# Altium footprint library DC-DC_Buck_Converter.PcbLib: 14 footprints
Each footprint in its own frame and in the unit in brackets; x right, y up, seen from the top. Pads: shape width x height; smd on the part's side, far side on the other; paste and mask are expansions set on the pad; w line width, h text height; cw(c..) or ccw(c..) is an arc to the next point about the centre after c.
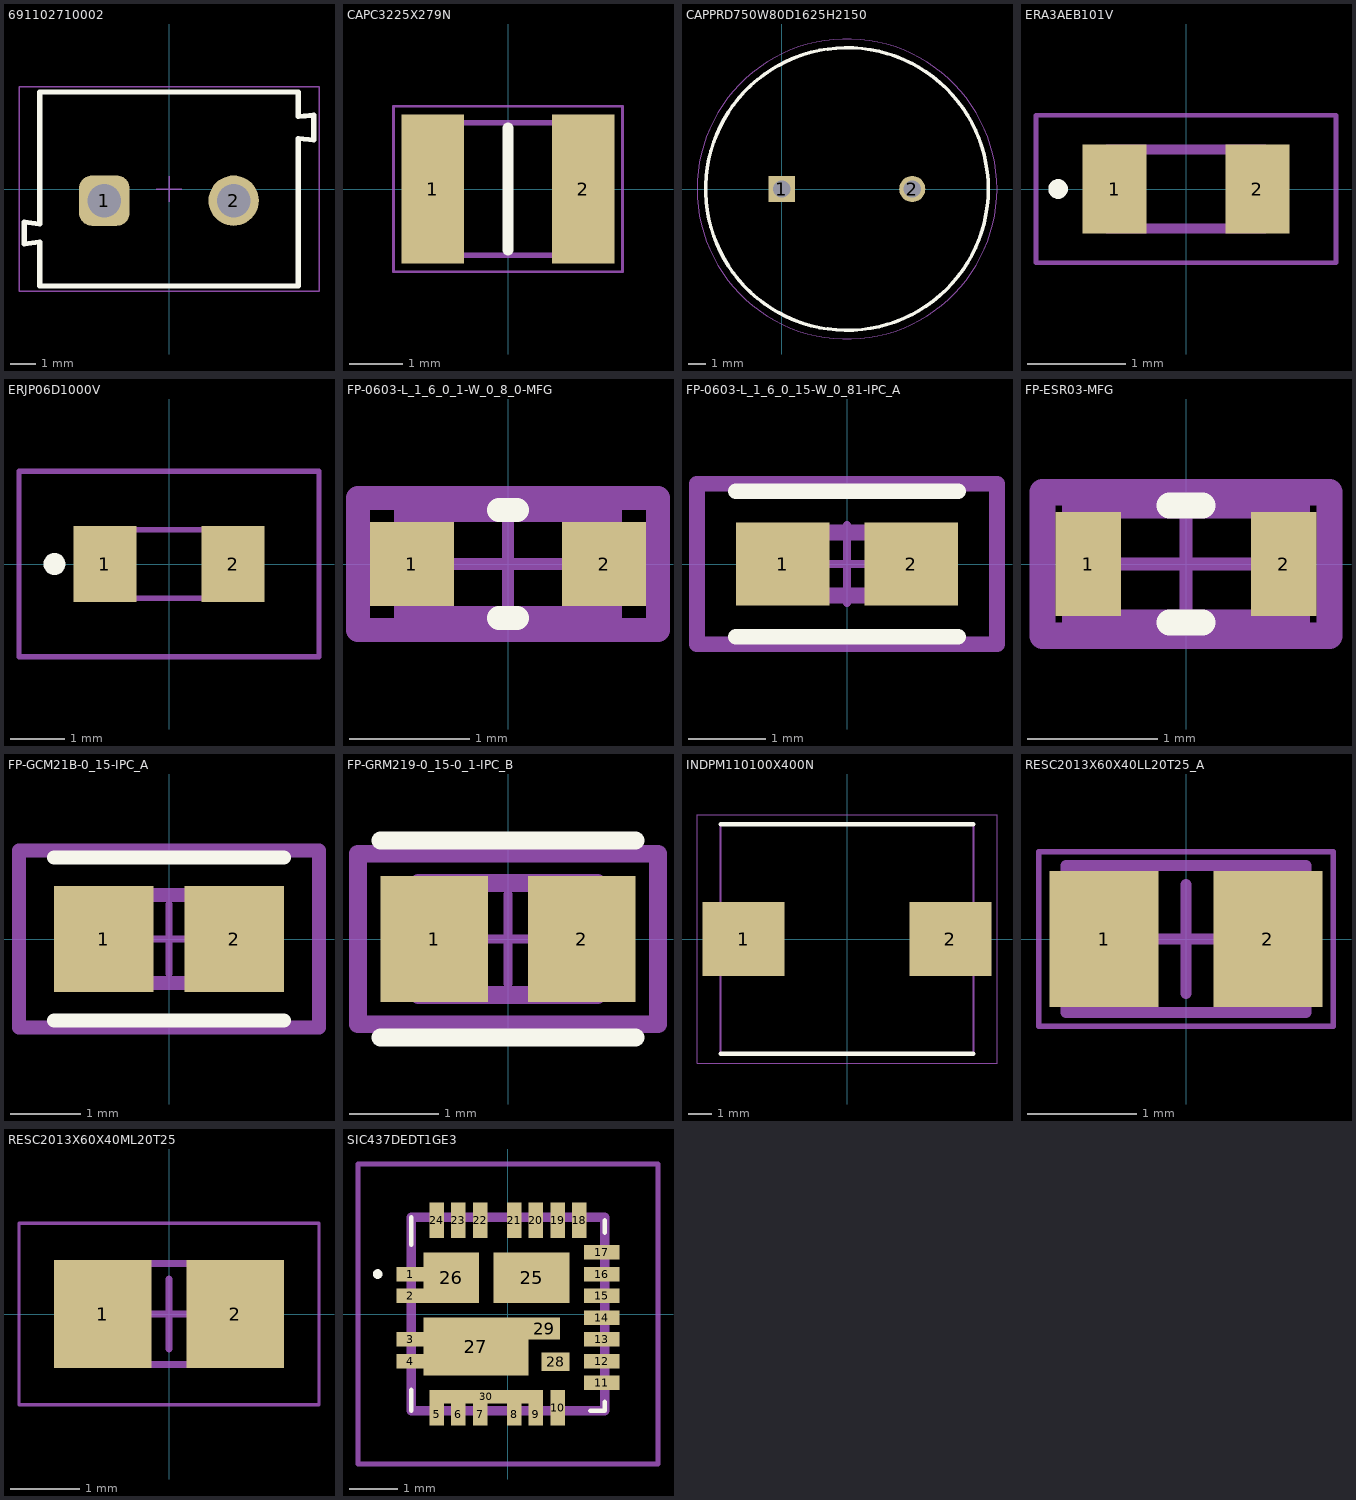
[diagram p0: the footprints below, top view; thin cyan lines are the x and y axes]

## 691102710002 [mm]
pads (2):
  rrect50% 1.95x1.95 hole 1.3: 1(-2.5,-0.45)
  round 1.95 hole 1.3: 2(2.5,-0.45)
Top Overlay:
  lines w0.2: -5.6,-2.125 -5.6,-1.275 -5,-1.35 -5,3.75 5,3.75 5,2.8 5.6,2.85 5.6,1.9 5,1.95 5,-3.75 -5,-3.75 -5,-2.05 -5.6,-2.125
Top Designator:
  text ".Designator" at -7.498,-0.5 h1.5
Top Component Outline:
  lines w0.1: -5.6,-2.125 -5,-2.05 -5,-3.75 5,-3.75 5,1.95 5.6,1.9 5.6,2.85 5,2.8 5,3.75 -5,3.75 -5,-1.35 -5.6,-1.275 -5.6,-2.125
Top 3D Body:
  lines w0.1: -5.6,-2.125 -5.6,-1.275 -5,-1.35 -5,3.75 5,3.75 5,2.8 5.6,2.85 5.6,1.9 5,1.95 5,-3.75 -5,-3.75 -5,-2.05 -5.6,-2.125
Top Courtyard:
  lines w0.05: -5.8,-3.95 -5.8,3.95 5.8,3.95 5.8,-3.95 -5.8,-3.95
Top Component Center:
  lines w0.05: -0.5,0 0.5,0 ; 0,-0.5 0,0.5
3D body "691102710002.stp": height 9.96, standoff -3.44, extent -5.6,-3.75 5.6,3.75

## CAPC3225X279N [mm]
pads (2):
  rect 1.18x2.82 smd: 1(-1.42,0) 2(1.42,0)
Top Overlay:
  lines w0.2: 0,-1.15 0,1.15
Top 3D Body:
  lines w0.1: -1.6,-1.25 1.6,-1.25 1.6,1.25 -1.6,1.25 -1.6,-1.25
Top Courtyard:
  lines w0.05: -2.16,-1.56 2.16,-1.56 2.16,1.56 -2.16,1.56 -2.16,-1.56
3D body "1210YD476KAT4A.stp": height 2.79, standoff 0, extent -1.6,-1.25 1.6,1.25

## CAPPRD750W80D1625H2150 [mm]
pads (2):
  rect 1.5x1.5 hole 1: 1(0,0)
  round 1.5 hole 1: 2(7.5,0)
Top Overlay:
  circle w0.2: c3.75,0 r8.125
Top 3D Body:
  circle w0.1: c3.75,0 r8.125
Top Courtyard:
  circle w0.05: c3.75,0 r8.625
3D body "UCS2C151MHD.stp": height 21.5, standoff -10, extent -4.5,-8.238 12,8.238

## ERA3AEB101V [mm]
pads (2):
  rect 0.65x0.9 smd: 1(-0.725,0) 2(0.725,0)
Top Overlay:
  lines w0.1: -1.3,-0.05 cw(c-1.3,0) -1.3,0.05 cw(c-1.3,0) -1.3,-0.05
Top 3D Body:
  lines w0.1: -0.8,-0.4 0.8,-0.4 0.8,0.4 -0.8,0.4 -0.8,-0.4
Top Courtyard:
  lines w0.05: -1.525,-0.75 1.525,-0.75 1.525,0.75 -1.525,0.75 -1.525,-0.75
3D body "ERA-3AED104V.stp": height 0.45, standoff 0, extent -0.8,-0.4 0.8,0.4

## ERJP06D1000V [mm]
pads (2):
  rect 1.15x1.4 smd: 1(-1.175,0) 2(1.175,0)
Top Overlay:
  lines w0.2: -2.1,-0.1 cw(c-2.1,0) -2.1,0.1 cw(c-2.1,0) -2.1,-0.1
Top 3D Body:
  lines w0.1: -1,-0.625 1,-0.625 1,0.625 -1,0.625 -1,-0.625
Top Courtyard:
  lines w0.1: -2.75,-1.7 2.75,-1.7 2.75,1.7 -2.75,1.7 -2.75,-1.7
3D body "ERJ-P06F5623V.stp": height 0.6, standoff 0, extent -1,-0.625 1,0.625

## FP-0603-L_1_6_0_1-W_0_8_0-MFG [mm]
pads (2):
  rect 0.7x0.7 smd paste+0 mask+0: 1(-0.8,0) 2(0.8,0)
Top Overlay:
  lines w0.2: -0.075,-0.45 0.075,-0.45 ; -0.075,0.45 0.075,0.45
Top Assembly:
  lines w0.2: -1.25,-0.55 -1.25,0.55 1.25,0.55 1.25,-0.55 -1.25,-0.55
  text ".Designator" at 0,0.188 h1
Top 3D Body:
  lines w0.2: -0.85,-0.45 -0.85,0.45 0.85,0.45 0.85,-0.45 -0.85,-0.45
Top Courtyard:
  lines w0.2: -1.25,-0.55 -1.25,0.55 1.25,0.55 1.25,-0.55 -1.25,-0.55
Top Component Center:
  lines w0.1: -0.5,0 0.5,0 ; 0,-0.5 0,0.5
3D body "Cap_Taiyo_Yuden_GMK107BJ104KAHT_eec.STEP": height 0.25, standoff 0, extent -1.25,-0.55 1.25,0.55

## FP-0603-L_1_6_0_15-W_0_81-IPC_A [mil]
pads (2):
  rect 47.5x42.06 smd paste+0 mask+0: 1(-32.51,0) 2(32.51,0)
Top Overlay:
  lines w7.87: -56.26,-36.78 56.26,-36.78 ; -56.26,36.78 56.26,36.78
Top Assembly:
  lines w7.87: -75.95,-40.71 -75.95,40.71 75.95,40.71 75.95,-40.71 -75.95,-40.71
  text ".Designator" at 0,7.41 h39.37
Top 3D Body:
  lines w7.87: -31.5,-15.94 -31.5,15.94 31.5,15.94 31.5,-15.94 -31.5,-15.94
Top Courtyard:
  lines w7.87: -75.95,-40.71 -75.95,40.71 75.95,40.71 75.95,-40.71 -75.95,-40.71
Top Component Center:
  lines w3.94: -19.68,0 19.68,0 ; 0,-19.68 0,19.68
3D body "Cap_AVX_0603YA0R5BAT2A_eec.STEP": height 10, standoff 0, extent -75.95,-40.71 75.95,40.71

## FP-ESR03-MFG [mm]
pads (2):
  rect 0.5x0.8 smd paste+0 mask+0: 1(-0.75,0) 2(0.75,0)
Top Overlay:
  lines w0.2: -0.125,-0.45 0.125,-0.45 ; -0.125,0.45 0.125,0.45
Top Assembly:
  lines w0.2: -1.1,-0.55 -1.1,0.55 1.1,0.55 1.1,-0.55 -1.1,-0.55
  text ".Designator" at 0,0.188 h1
Top 3D Body:
  lines w0.2: -0.85,-0.45 -0.85,0.45 0.85,0.45 0.85,-0.45 -0.85,-0.45
Top Courtyard:
  lines w0.2: -1.1,-0.55 -1.1,0.55 1.1,0.55 1.1,-0.55 -1.1,-0.55
Top Component Center:
  lines w0.1: -0.5,0 0.5,0 ; 0,-0.5 0,0.5
3D body "Res_Rohm_ESR03EZPJ101_eec.STEP": height 0.25, standoff 0, extent -1.1,-0.55 1.1,0.55

## FP-GCM21B-0_15-IPC_A [mm]
pads (2):
  rect 1.406x1.508 smd paste+0 mask+0: 1(-0.926,0) 2(0.926,0)
Top Overlay:
  lines w0.2: -1.629,-1.154 1.629,-1.154 ; -1.629,1.154 1.629,1.154
Top Assembly:
  lines w0.2: -2.129,-1.254 -2.129,1.254 2.129,1.254 2.129,-1.254 -2.129,-1.254
  text ".Designator" at 0,0.188 h1
Top 3D Body:
  lines w0.2: -1,-0.625 -1,0.625 1,0.625 1,-0.625 -1,-0.625
Top Courtyard:
  lines w0.2: -2.129,-1.254 -2.129,1.254 2.129,1.254 2.129,-1.254 -2.129,-1.254
Top Component Center:
  lines w0.1: -0.5,0 0.5,0 ; 0,-0.5 0,0.5
3D body "Cap_Murata_GCM21BR72A104KA37L_eec.STEP": height 0.25, standoff 0, extent -2.129,-1.254 2.129,1.254

## FP-GRM219-0_15-0_1-IPC_B [mm]
pads (2):
  rect 1.206x1.408 smd paste+0 mask+0: 1(-0.826,0) 2(0.826,0)
Top Overlay:
  lines w0.2: -1.429,-1.104 1.429,-1.104 ; -1.429,1.104 1.429,1.104
Top Assembly:
  lines w0.2: -1.679,-0.954 -1.679,0.954 1.679,0.954 1.679,-0.954 -1.679,-0.954
  text ".Designator" at 0,0.188 h1
Top 3D Body:
  lines w0.2: -1,-0.625 -1,0.625 1,0.625 1,-0.625 -1,-0.625
Top Courtyard:
  lines w0.2: -1.679,-0.954 -1.679,0.954 1.679,0.954 1.679,-0.954 -1.679,-0.954
Top Component Center:
  lines w0.1: -0.5,0 0.5,0 ; 0,-0.5 0,0.5
3D body "Cap_Murata_GRM219R6YA475KA73J_eec.STEP": height 0.25, standoff 0, extent -1.679,-0.954 1.679,0.954

## INDPM110100X400N [mm]
pads (2):
  rect 3.55x3.2 smd: 1(-4.5,0) 2(4.5,0)
Top Overlay:
  lines w0.2: -5.5,-5 5.5,-5 ; -5.5,5 5.5,5
Top 3D Body:
  lines w0.1: -5.5,-5 5.5,-5 5.5,5 -5.5,5 -5.5,-5
Top Courtyard:
  lines w0.05: -6.525,-5.4 6.525,-5.4 6.525,5.4 -6.525,5.4 -6.525,-5.4
3D body "SRP1038CC-2R2M.stp": height 4, standoff 0, extent -5.5,-5 5.5,5

## RESC2013X60X40LL20T25_A [mm]
pads (2):
  rect 1x1.25 smd: 1(-0.75,0) 2(0.75,0)
Top 3D Body:
  lines w0.1: -1.1,-0.675 1.1,-0.675 1.1,0.675 -1.1,0.675 -1.1,-0.675
Top Courtyard:
  lines w0.05: -1.35,-0.8 1.35,-0.8 1.35,0.8 -1.35,0.8 -1.35,-0.8
  lines w0.1: -0.5,0 0.5,0 ; 0,-0.5 0,0.5
3D body "RESC2012X06L.step": height 0.6, standoff 0, extent -1.1,-0.675 1.1,0.675

## RESC2013X60X40ML20T25 [mm]
pads (2):
  rect 1.4x1.55 smd: 1(-0.95,0) 2(0.95,0)
Top 3D Body:
  lines w0.1: -1.1,-0.725 -1.1,0.725 1.1,0.725 1.1,-0.725 -1.1,-0.725
Top Courtyard:
  lines w0.05: -2.15,-1.3 -2.15,1.3 2.15,1.3 2.15,-1.3 -2.15,-1.3
  lines w0.1: -0.5,0 0.5,0 ; 0,-0.5 0,0.5
3D body: height 0.6, standoff 0, extent -0.7,-0.725 0.7,0.725
3D body: height 0.6, standoff 0, extent -1.1,-0.725 -0.7,0.725
3D body: height 0.6, standoff 0, extent 0.7,-0.725 1.1,0.725

## SIC437DEDT1GE3 [mm]
pads (30):
  rect 0.55x0.3 smd: 1(-2.024,0.826) 2(-2.024,0.376) 3(-2.024,-0.524) 4(-2.024,-0.974)
  rect 0.3x0.45 smd: 5(-1.474,-2.074) 6(-1.024,-2.074) 7(-0.574,-2.074) 8(0.126,-2.074) 9(0.576,-2.074)
  rect 0.3x0.73 smd: 10(1.026,-1.934)
  rect 0.725x0.3 smd: 11(1.938,-1.424) 12(1.938,-0.974) 13(1.938,-0.524) 14(1.938,-0.074) 15(1.938,0.376) 16(1.938,0.826) 17(1.938,1.276)
  rect 0.3x0.725 smd: 18(1.476,1.938) 19(1.026,1.938) 20(0.576,1.938) 21(0.126,1.938) 22(-0.574,1.938) 23(-1.024,1.938) 24(-1.474,1.938)
  rect 1.575x1.05 smd: 25(0.488,0.751)
  rect 1.15x1.05 smd: 26(-1.174,0.751)
  rect 2.175x1.2 smd: 27(-0.662,-0.674)
  rect 0.58x0.38 smd: 28(0.986,-0.989)
  rect 0.65x0.455 smd: 29(0.751,-0.302)
  rect 2.35x0.275 smd: 30(-0.449,-1.712)
Top Overlay:
  lines w0.1: -2.643,0.826 cw(c-2.693,0.826) -2.743,0.826 cw(c-2.692,0.826) -2.642,0.826 ; -2,-2 -2,-1.568 ; -2,1.432 -2,2 ; 1.707,-2 2,-2 2,-1.934 2,-1.818 ; 2,1.682 2,1.932
Top 3D Body:
  lines w0.2: -2,-2 2,-2 2,2 -2,2 -2,-2
Top Courtyard:
  lines w0.1: -3.099,-3.099 3.1,-3.099 3.1,3.1 -3.099,3.1 -3.099,-3.099
3D body "SiC437AED-T1-GE3.stp": height 0.77, standoff 0, extent -2,-2 2,2